# EAGLE library part 691314520106 (library Wuerth_Elektronik_eiCan_Terminal_Blocks_v2.0)
WR-TBL Serie 314 - 5.08mm Close 45° PCB Header with Flanges , 6 pins
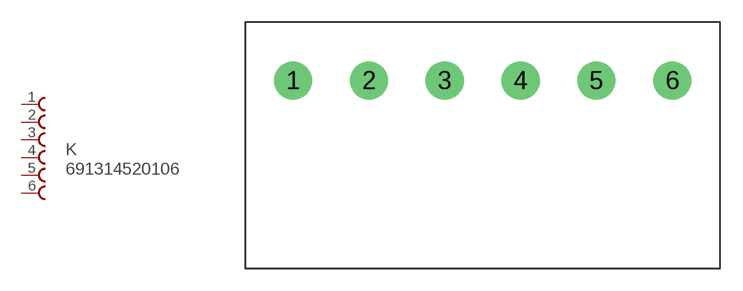
[diagram p152: symbol with the pads of 691314520106; footprint 691314520106]

Designator prefix K

## 691314520106  [691314520106]
1  1  pas
2  2  pas
3  3  pas
4  4  pas
5  5  pas
6  6  pas

## Footprint 691314520106 (pad centres in mm)
WR-TBL Serie 314 - 5.08mm Close 45° PCB Header with Flanges , 6 pins
drill 1.7 round: 1 -10.16,0; 2 -5.08,0; 3 0,0; 4 5.08,0; 5 10.16,0; 6 15.24,0